# EAGLE library part M8-8 (library Conec)
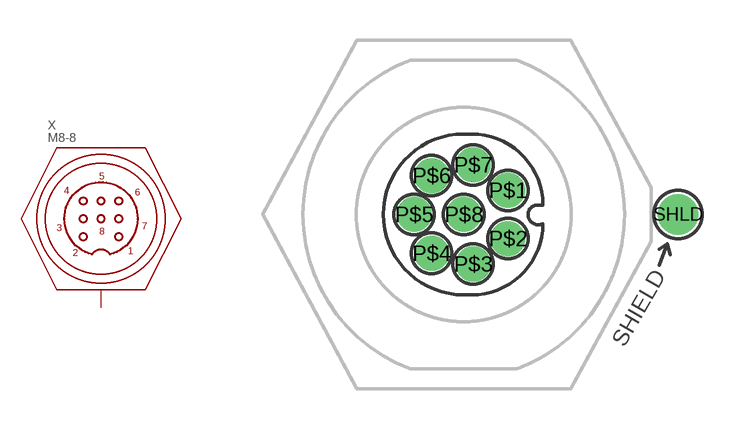
[diagram p1: symbol with the pads of M8-VERT-8POS; footprint M8-VERT-8POS]

Designator prefix X

## M8-8-VERT (PARTNO: 42-01146)  [M8-VERT-8POS]
P$1  P$1  pas
P$2  P$2  pas
P$3  P$3  pas
P$4  P$4  pas
P$5  P$5  pas
P$6  P$6  pas
P$7  P$7  pas
P$8  P$8  pas
SHLD  SHIELD  pas

## Footprint M8-VERT-8POS (pad centres in mm)
8 Position Conec M8 female header - shielded Extra pad added to allow ground of shield P/N: 42-01146 <http://www.conec.com/catalog/en/sal-8-fkh8-p5-5.html>
drill 0.8 round: P$1 1.65,0.9; P$2 1.65,-0.9; P$3 0.35,-1.85; P$4 -1.2,-1.45; P$5 -1.85,0; P$6 -1.2,1.45; P$7 0.35,1.85; P$8 0,0
drill 1 round: SHLD 8,0